# EAGLE library part PDQE20-Q24-S12-D (library PDQE20-Q24-S12-D)
Isolated DC/DC Converters - Through Hole dc-dc isolated, 20 W, 9~36 Vdc input, 12 Vdc, 1.667A, single regulated output, DIP Source: Datasheet <https://www.cui.com/product/resource/pdqe20-d.pdf>
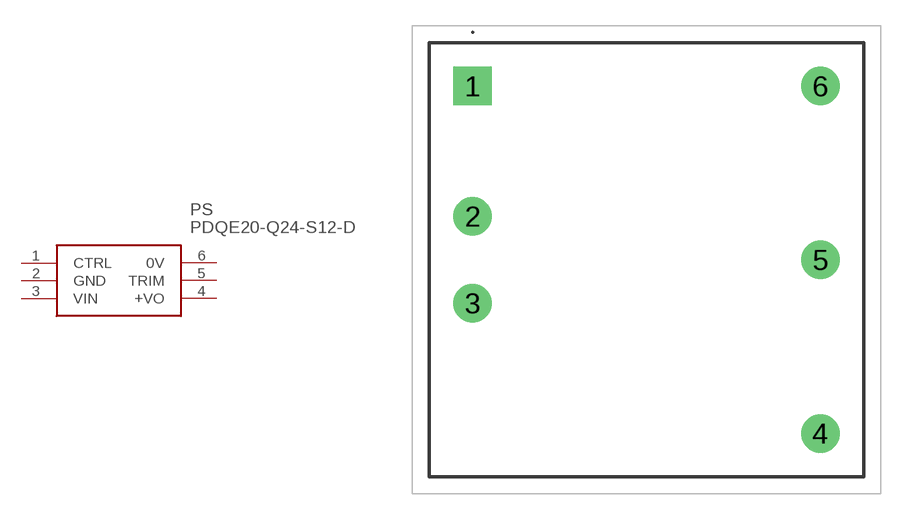
[diagram p0: symbol with the pads of PDQE20Q24S12D; footprint PDQE20Q24S12D]

Designator prefix PS

## PDQE20-Q24-S12-D (Arrow_Part_Number: PDQE20-Q24-S12-D; Arrow_Price-Stock: https://www.arrow.com/en/products/pdqe20-q24-s12-d/cui-inc?region=nac; Description: Isolated DC/DC Converters - Through Hole dc-dc isolated, 20 W, 9~36 Vdc input, 12 Vdc, 1.667A, single regulated output, DIP; Height: 12.2mm; Manufacturer_Name: CUI Inc.; Manufacturer_Part_Number: PDQE20-Q24-S12-D; Mouser_Part_Number: 490-PDQE20-Q24-S12-D; Mouser_Price-Stock: https://www.mouser.co.uk/ProductDetail/CUI-Inc/PDQE20-Q24-S12-D?qs=T3oQrply3y%252BFQp9j4U5RaQ%3D%3D)  [PDQE20Q24S12D]
1  CTRL
2  GND
3  VIN
4  +VO
5  TRIM
6  0V

## Footprint PDQE20Q24S12D (pad centres in mm)
PDQE20-Q24-S12-D-1
drill 1.5 pad 2.25 square: 1 0,0
drill 1.5 pad 2.25: 2 0,-7.62; 3 0,-12.7; 4 20.32,-20.32; 5 20.32,-10.16; 6 20.32,0